# EAGLE library part SIM900 (library lib_stankus)
Simcom SIM900 GSM module
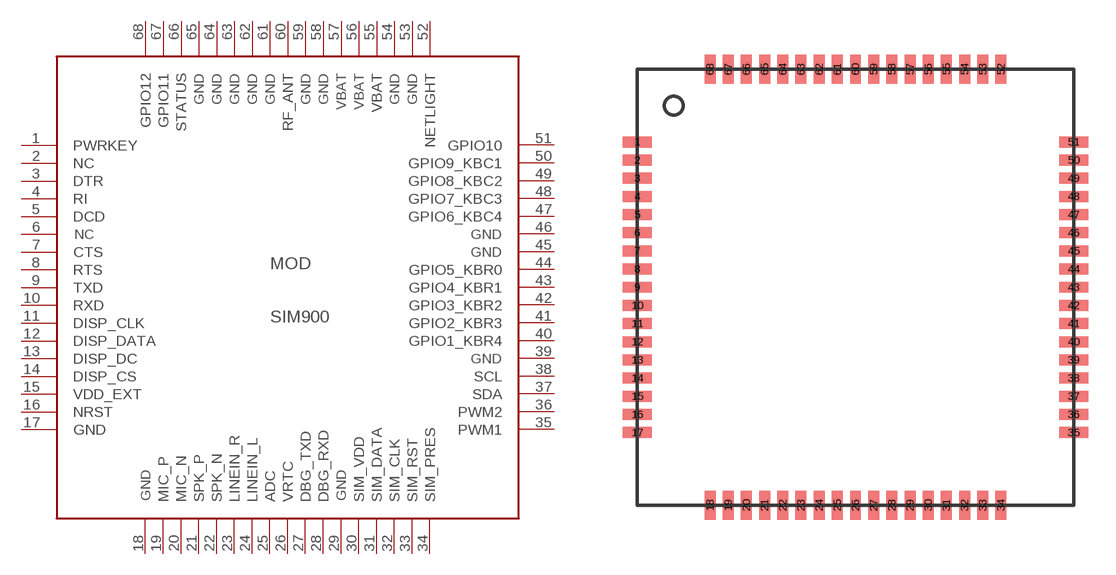
[diagram p36: symbol with the pads of SIM900; footprint SIM900]

Designator prefix MOD

## SIM900  [SIM900]
1  PWRKEY  pas
2  NC  nc
3  DTR  pas
4  RI  pas
5  DCD  pas
6  NC  nc
7  CTS  pas
8  RTS  pas
9  TXD  pas
10  RXD  pas
11  DISP_CLK  pas
12  DISP_DATA  pas
13  DISP_DC  pas
14  DISP_CS  pas
15  VDD_EXT  pas
16  NRST  pas
17  GND  pas
18  GND  pas
19  MIC_P  pas
20  MIC_N  pas
21  SPK_P  pas
22  SPK_N  pas
23  LINEIN_R  pas
24  LINEIN_L  pas
25  ADC  pas
26  VRTC  pas
27  DBG_TXD  pas
28  DBG_RXD  pas
29  GND  pas
30  SIM_VDD  pas
31  SIM_DATA  pas
32  SIM_CLK  pas
33  SIM_RST  pas
34  SIM_PRES  pas
35  PWM1  pas
36  PWM2  pas
37  SDA  pas
38  SCL  pas
39  GND  pas
40  GPIO1_KBR4  pas
41  GPIO2_KBR3  pas
42  GPIO3_KBR2  pas
43  GPIO4_KBR1  pas
44  GPIO5_KBR0  pas
45  GND  pas
46  GND  pas
47  GPIO6_KBC4  pas
48  GPIO7_KBC3  pas
49  GPIO8_KBC2  pas
50  GPIO9_KBC1  pas
51  GPIO10  pas
52  NETLIGHT  pas
53  GND  pas
54  GND  pas
55  VBAT  pas
56  VBAT  pas
57  VBAT  pas
58  GND  pas
59  GND  pas
60  RF_ANT  pas
61  GND  pas
62  GND  pas
63  GND  pas
64  GND  pas
65  GND  pas
66  STATUS  pas
67  GPIO11  pas
68  GPIO12  pas

## Footprint SIM900 (pad centres in mm)
SIM900
smd 1.6 x 0.6: 1 -12,8; 2 -12,7; 3 -12,6; 4 -12,5; 5 -12,4; 6 -12,3; 7 -12,2; 8 -12,1; 9 -12,0; 10 -12,-1; 11 -12,-2; 12 -12,-3; 13 -12,-4; 14 -12,-5; 15 -12,-6; 16 -12,-7; 17 -12,-8; 35 12,-8; 36 12,-7; 37 12,-6; 38 12,-5; 39 12,-4; 40 12,-3; 41 12,-2; 42 12,-1; 43 12,0; 44 12,1; 45 12,2; 46 12,3; 47 12,4; 48 12,5; 49 12,6; 50 12,7; 51 12,8
smd 0.6 x 1.6: 18 -8,-12; 19 -7,-12; 20 -6,-12; 21 -5,-12; 22 -4,-12; 23 -3,-12; 24 -2,-12; 25 -1,-12; 26 0,-12; 27 1,-12; 28 2,-12; 29 3,-12; 30 4,-12; 31 5,-12; 32 6,-12; 33 7,-12; 34 8,-12; 52 8,12; 53 7,12; 54 6,12; 55 5,12; 56 4,12; 57 3,12; 58 2,12; 59 1,12; 60 0,12; 61 -1,12; 62 -2,12; 63 -3,12; 64 -4,12; 65 -5,12; 66 -6,12; 67 -7,12; 68 -8,12